# Altium footprint library PcbLib1.PcbLib: 19 footprints (part 2 of 2)
Each footprint in its own frame and in the unit in brackets; x right, y up, seen from the top. Pads: shape width x height; smd on the part's side, far side on the other; paste and mask are expansions set on the pad; w line width, h text height; cw(c..) or ccw(c..) is an arc to the next point about the centre after c.
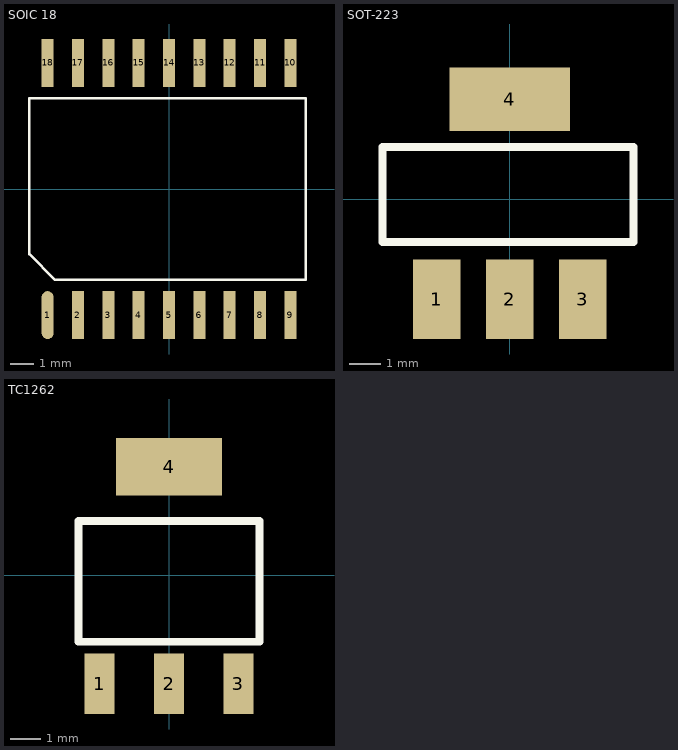
[diagram p1: the footprints below, top view; thin cyan lines are the x and y axes]

## SOIC 18 [mm]
pads (18):
  oval 0.5x2 smd: 1(-5.08,-5.275)
  rect 0.5x2 smd: 2(-3.81,-5.275) 3(-2.54,-5.275) 4(-1.27,-5.275) 5(0,-5.275) 6(1.27,-5.275) 7(2.54,-5.275) 8(3.81,-5.275) 9(5.08,-5.275) 10(5.08,5.275) 11(3.81,5.275) 12(2.54,5.275) 13(1.27,5.275) 14(0,5.275) 15(-1.27,5.275) 16(-2.54,5.275) 17(-3.81,5.275) 18(-5.08,5.275)
Top Overlay:
  lines w0.1: 5.713,-3.8 5.713,-1.9 5.713,1.9 5.713,3.8 ; 5.715,-3.8 -4.765,-3.8 -5.84,-2.725 -5.84,3.8 5.715,3.8
3D body "User Library-SOIC-18-300.STEP": height 2.67, standoff 0.07, extent -5.84,-5.2 5.91,5.4

## SOT-223 [mm]
pads (4):
  rect 1.5x2.5 smd: 1(-2.3,-3.15) 2(0,-3.15) 3(2.3,-3.15)
  rect 3.8x2 smd: 4(0,3.15)
Top Overlay:
  lines w0.254: -4,-1.35 3.8,-1.35 3.9,-1.35 3.9,1.65 -4,1.65 -4,-1.35
3D body "CircuitWorks-SOT-223.step": height 1.9, standoff 0.22, extent -3.15,-3.33 3.35,3.63

## TC1262 [mm] "Regulator 3.3"
pads (4):
  rect 1x2 smd: 1(-2.3,-3.6) 2(0,-3.6) 3(2.3,-3.6)
  rect 3.5x1.9 smd: 4(0,3.6)
Top Overlay:
  lines w0.254: -3,-2.2 -3,1.8 3,1.8 3,-2.2 -3,-2.2
3D body "CircuitWorks-SOT-223.step": height 1.9, standoff 0.22, extent -3.25,-3.68 3.25,3.28